# Altium footprint library sma.PcbLib: 1 footprints
Each footprint in its own frame and in the unit in brackets; x right, y up, seen from the top. Pads: shape width x height; smd on the part's side, far side on the other; paste and mask are expansions set on the pad; w line width, h text height; cw(c..) or ccw(c..) is an arc to the next point about the centre after c.
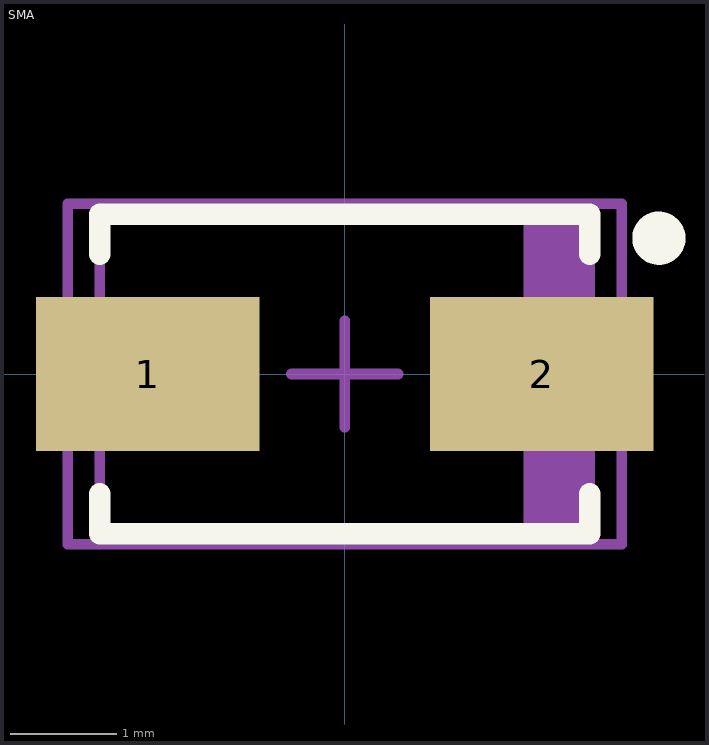
[diagram p0: the footprint, top view; thin cyan lines are the x and y axes]

## SMA [mm] "Molded Diode, 2-Leads, Body 4.3x2.6mm, IPC High Density"
height 2.3
pads (2):
  rect 2.1x1.45 smd: 1(-1.85,0) 2(1.85,0)
Top Overlay:
  circle w0.25: c2.95,1.275 r0.125
  lines w0.2: -2.3,-1.125 -2.3,-1.5 2.3,-1.5 2.3,-1.125 ; -2.3,1.125 -2.3,1.5 2.3,1.5 2.3,1.125
Top 3D Body:
  rectangle: 1.681,-1.46 2.3,1.46
  lines w0.1: -2.3,-1.46 -2.3,1.46 2.3,1.46 2.3,-1.46 -2.3,-1.46
Top Courtyard:
  lines w0.1: -0.5,0 0.5,0 ; 0,-0.5 0,0.5 ; -2.6,-1.6 -2.6,1.6 2.6,1.6 2.6,-1.6 -2.6,-1.6
3D body "User Library-DO-214AC SMA.step": height 2.4, standoff 0, extent -2.6,-1.3 2.6,1.3